# Altium footprint library CAPPRD350W60D800H2000.PcbLib: 2 footprints
Each footprint in its own frame and in the unit in brackets; x right, y up, seen from the top. Pads: shape width x height; smd on the part's side, far side on the other; paste and mask are expansions set on the pad; w line width, h text height; cw(c..) or ccw(c..) is an arc to the next point about the centre after c.
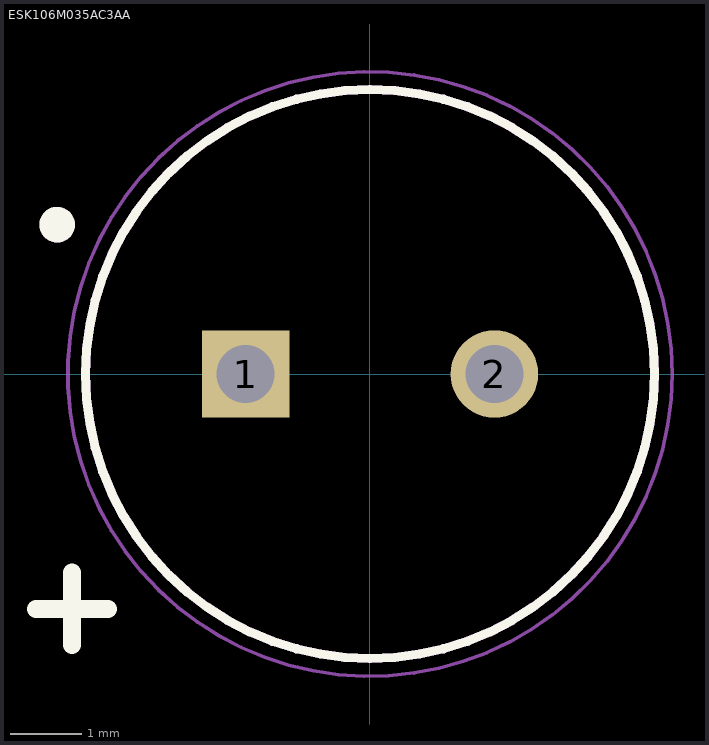
[diagram p0: the footprints below, top view; thin cyan lines are the x and y axes]

## ESK106M035AC3AA [mm]
pads (2):
  rect 1.23x1.23 hole 0.82: 1(-1.75,0)
  round 1.23 hole 0.82: 2(1.75,0)
Top Overlay:
  circle w0.127: c0,0 r4
  circle w0.3: c-4.4,2.1 r0.1
  lines w0.254: -4.699,-3.302 -3.683,-3.302 ; -4.191,-3.81 -4.191,-2.794
Mechanical 4:
  circle w0.127: c0,0 r4
  circle w0.3: c-4.4,2.1 r0.1
  circle w0.127: c0,0 r4
  circle w0.3: c-4.4,2.1 r0.1
Mechanical 16:
  circle w0.05: c0,0 r4.25

## PCBComponent_1 [mm]